# Altium footprint library Protel 99SE BANKS PCB.PCBLIB: 278 footprints (part 13 of 18)
Each footprint in its own frame and in the unit in brackets; x right, y up, seen from the top. Pads: shape width x height; smd on the part's side, far side on the other; paste and mask are expansions set on the pad; w line width, h text height; cw(c..) or ccw(c..) is an arc to the next point about the centre after c.
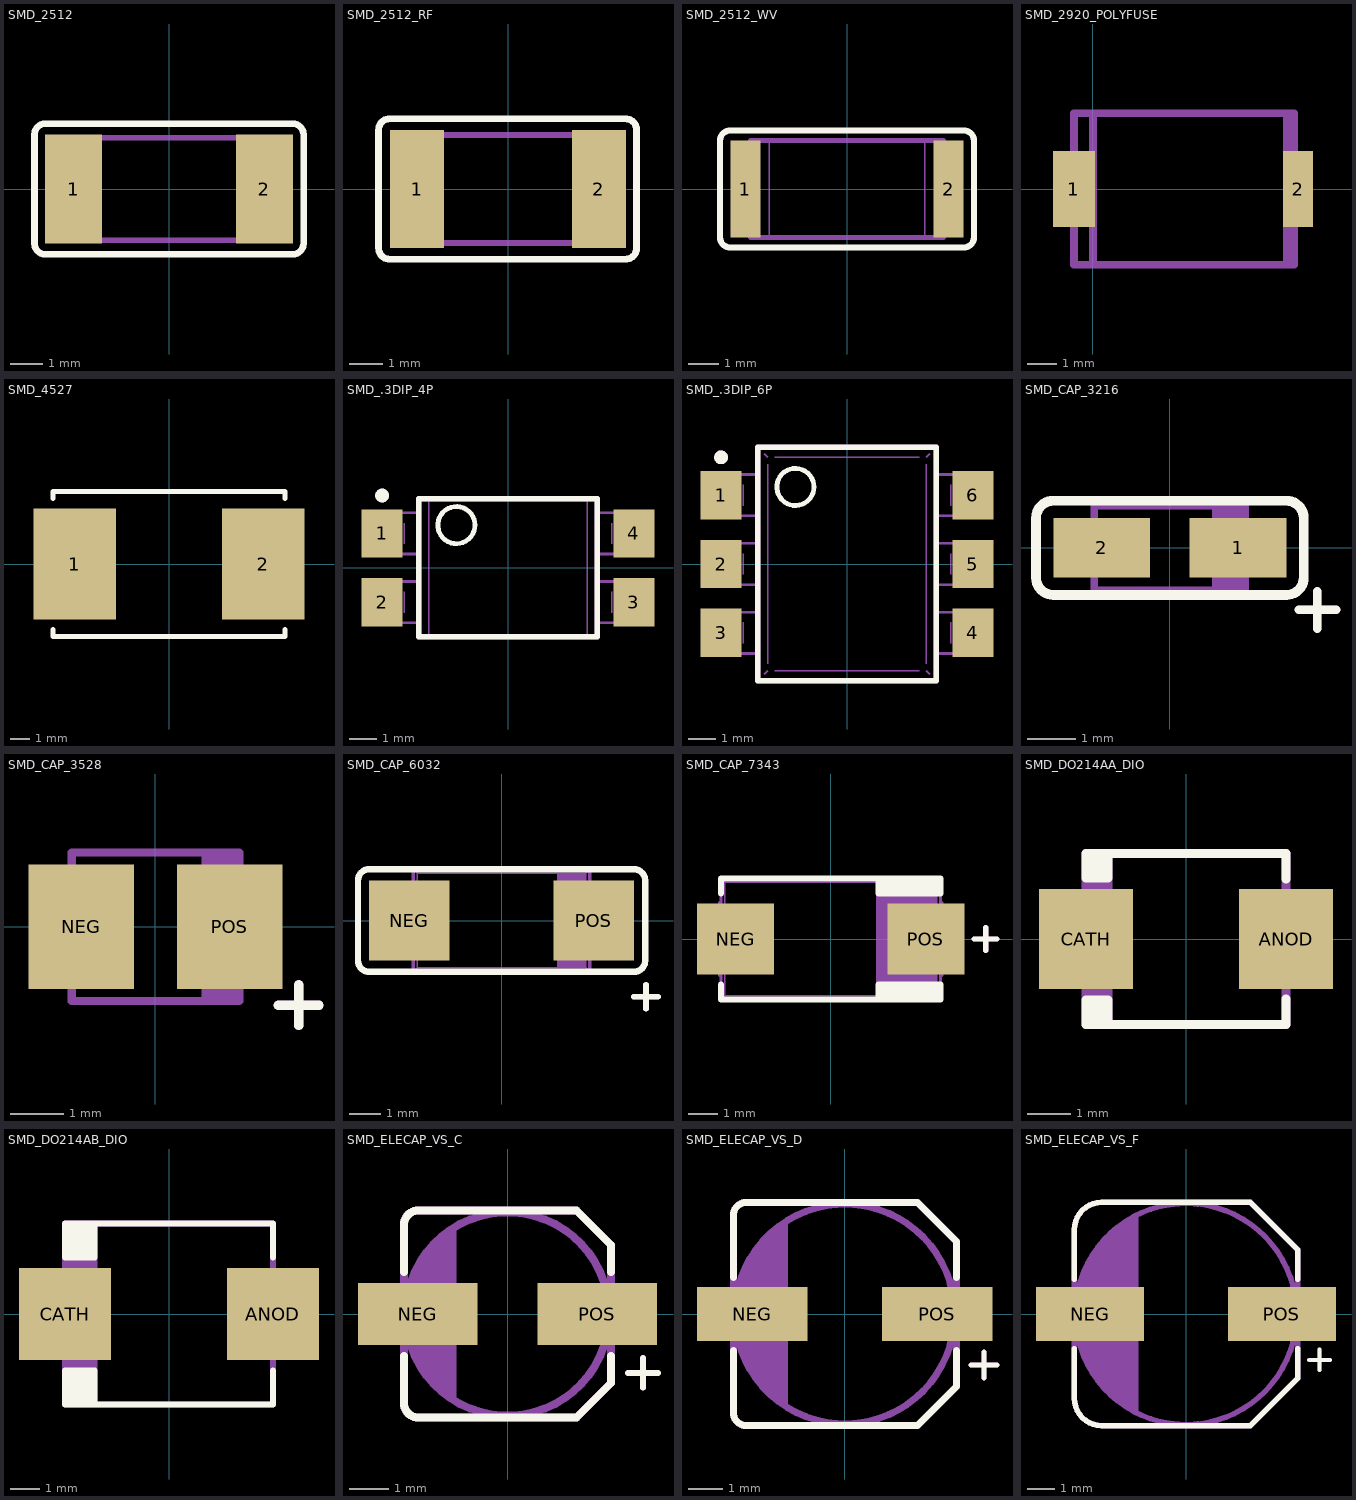
[diagram p12: the footprints below, top view; thin cyan lines are the x and y axes]

## SMD_2512 [mil]
pads (2):
  rect 70x134 smd: 1(-117,0) 2(117,0)
TopOverlay:
  lines w8: -165,-67 ccw(c-152,-67) -152,-80 152,-80 ccw(c152,-67) 165,-67 165,67 ccw(c152,67) 152,80 -152,80 ccw(c-152,67) -165,67 -165,-67
Mechanical3:
  lines w2: -101,-63 -101,63 ; 101,-63 101,63
  lines w7: -125,-63 125,-63 125,63 -125,63 -125,-63

## SMD_2512_RF [mil]
pads (2):
  rect 63x138 smd: 1(-106,0) 2(106,0)
TopOverlay:
  lines w8: -151,-69 ccw(c-138,-69) -138,-82 137,-82 ccw(c137,-69) 150,-69 150,69 ccw(c137,69) 137,82 -138,82 ccw(c-138,69) -151,69 -151,-69
Mechanical3:
  lines w2: -101,-63 -101,63 ; 101,-63 101,63
  lines w7: -125,-63 125,-63 125,63 -125,63 -125,-63

## SMD_2512_WV [mil]
pads (2):
  rect 39x126 smd: 1(-132,0) 2(132,0)
TopOverlay:
  lines w8: -165,-63 ccw(c-152,-63) -152,-76 152,-76 ccw(c152,-63) 165,-63 165,63 ccw(c152,63) 152,76 -152,76 ccw(c-152,63) -165,63 -165,-63
Mechanical3:
  lines w2: -101,-63 -101,63 ; 101,-63 101,63
  lines w7: -125,-63 -125,63 125,63 125,-63 -125,-63

## SMD_2920_POLYFUSE [mil]
pads (2):
  rect 55x100 smd: 1(-25,0)
  rect 40x100 smd: 2(270,0)
Mechanical3:
  lines w10: 0,-100 255,-100 ; 0,-100 -25,-100 -25,100 0,100 ; 0,-100 0,0 0,100 ; 0,100 255,100 ; 255,-100 265,-100 265,100 255,100 ; 255,-100 255,0 255,100

## SMD_4527 [mil]
pads (2):
  rect 170x230 smd: 1(-195,0) 2(195,0)
TopOverlay:
  lines w10: -240,-135 -240,-150 240,-150 240,-135 ; -240,135 -240,150 240,150 240,135

## SMD_.3DIP_4P [mil]
pads (4):
  rect 60x70 smd: 1(-183,50) 2(-183,-50) 3(183,-50) 4(183,50)
TopOverlay:
  circle w7: c-75,62 r27
  circle w8: c-183,105 r6
  lines w8: -187,105 -179,105 ; -183,101 -183,109 ; -130,-100 -130,100 130,100 130,-100 -130,-100
Mechanical3:
  circle w4: c-75,62 r27
  circle w8: c-183,105 r6
  lines w2: -165,-55 -165,-45 ; -165,45 -165,55 ; -151,-65 -151,-35 ; -151,35 -151,65 ; -115,-100 -115,100 ; 115,-100 115,100 ; 151,-65 151,-35 ; 151,35 151,65 ; 165,-55 165,-45 ; 165,45 165,55
  lines w4: -130,-80 -158,-80 -171,-60 -195,-60 -195,-40 -171,-40 -159,-20 -130,-20 ; -130,20 -158,20 -171,40 -195,40 -195,60 -171,60 -159,80 -130,80 ; 130,-80 158,-80 171,-60 195,-60 195,-40 171,-40 159,-20 130,-20 ; 130,20 158,20 171,40 195,40 195,60 171,60 159,80 130,80
  lines w8: -187,105 -179,105 ; -183,101 -183,109 ; -130,-100 130,-100 130,100 -130,100 -130,-100

## SMD_.3DIP_6P [mil]
pads (6):
  rect 60x70 smd: 1(-183,100) 2(-183,0) 3(-183,-100) 4(183,-100) 5(183,0) 6(183,100)
TopOverlay:
  circle w8: c-183,155 r6
  circle w7: c-75,112 r27
  lines w8: -187,155 -179,155 ; -183,151 -183,159 ; -130,-170 130,-170 130,170 -130,170 -130,-170
Mechanical3:
  circle w8: c-183,155 r6
  circle w4: c-75,112 r27
  lines w2: -165,-105 -165,-95 ; -165,-5 -165,5 ; -165,95 -165,105 ; -151,-115 -151,-85 ; -151,-15 -151,15 ; -151,85 -151,115 ; -120,-160 -115,-155 ; -120,160 -115,155 ; -115,-145 -115,145 ; -105,-155 105,-155 ; -105,155 105,155 ; 115,-155 120,-160 ; 115,-145 115,145 ; 115,155 120,160 ; 151,-115 151,-85 ; 151,-15 151,15 ; 151,85 151,115 ; 165,-105 165,-95 ; 165,-5 165,5 ; 165,95 165,105
  lines w4: -130,-130 -158,-130 -171,-110 -195,-110 -195,-90 -171,-90 -159,-70 -130,-70 ; -130,-30 -158,-30 -171,-10 -195,-10 -195,10 -171,10 -159,30 -130,30 ; -130,70 -158,70 -171,90 -195,90 -195,110 -171,110 -159,130 -130,130 ; 130,-130 158,-130 171,-110 195,-110 195,-90 171,-90 159,-70 130,-70 ; 130,-30 158,-30 171,-10 195,-10 195,10 171,10 159,30 130,30 ; 130,70 158,70 171,90 195,90 195,110 171,110 159,130 130,130
  lines w8: -187,155 -179,155 ; -183,151 -183,159 ; -130,-170 -130,170 130,170 130,-170 -130,-170

## SMD_CAP_3216 [mil]
pads (2):
  rect 78x48 smd: 1(55,0) 2(-55,0)
TopOverlay:
  lines w7: 104,-50 134,-50 ; 119,-65 119,-35
  lines w8: -108,-24 ccw(c-94,-24) -94,-38 94,-38 ccw(c94,-24) 108,-24 108,24 ccw(c94,24) 94,38 -94,38 ccw(c-94,24) -108,24 -108,-24
Mechanical3:
  rectangle: 36,-34 61,34
  lines w4: -61,-21 -66,-21 -66,21 -61,21 ; 36,-34 36,34 ; 61,-21 66,-21 66,21 61,21
  lines w6: -61,-34 61,-34 61,34 -61,34 -61,-34
  lines w7: 104,-50 134,-50 ; 119,-65 119,-35

## SMD_CAP_3528 [mil]
pads (2):
  rect 78x92 smd: NEG(-55,0) POS(55,0)
TopOverlay:
  lines w7: 91,-58 121,-58 ; 106,-73 106,-43
Mechanical3:
  rectangle: 36,-55 62,55
  lines w4: -62,-43 -69,-43 -69,43 -62,43 ; 36,-55 36,55 ; 62,-43 69,-43 69,43 62,43
  lines w6: -62,-55 62,-55 62,55 -62,55 -62,-55
  lines w7: 91,-58 121,-58 ; 106,-73 106,-43

## SMD_CAP_6032 [mil]
pads (2):
  rect 100x100 smd: NEG(-115,0) POS(115,0)
TopOverlay:
  lines w7: 165,-95 195,-95 ; 180,-110 180,-80
  lines w8: -179,-50 ccw(c-165,-50) -165,-64 165,-64 ccw(c165,-50) 179,-50 179,50 ccw(c165,50) 165,64 -165,64 ccw(c-165,50) -179,50 -179,-50
Mechanical3:
  rectangle: 70,-59 105,59
  lines w2: -110,-63 -105,-59 ; -110,63 -105,59 ; 70,-59 70,59 ; 110,-63 105,-59 ; 110,63 105,59 ; -105,-59 105,-59 ; -105,-59 -105,59 ; -105,59 105,59 ; 105,-59 105,59
  lines w4: -110,-44 -114,-44 -114,44 -110,44 ; 110,-44 114,-44 114,-16 110,-16 ; 110,16 114,16 114,44 110,44 ; -110,-63 110,-63 110,63 -110,63 -110,-63
  lines w7: 165,-95 195,-95 ; 180,-110 180,-80

## SMD_CAP_7343 [mil]
pads (2):
  rect 102x94 smd: NEG(-126,0) POS(126,0)
TopOverlay:
  rectangle: 63,-80 145,-60
  rectangle: 63,60 145,80
  lines w7: 190,0 220,0 ; 205,-15 205,15
  lines w8: -145,-60 -145,-80 145,-80 145,-60 63,-60 63,-80 ; -145,60 -145,80 145,80 145,60 63,60 63,80
Mechanical3:
  rectangle: 60,-75 140,75
  lines w2: -145,-80 -140,-75 ; -145,80 -140,75 ; 145,-80 140,-75 ; 145,80 140,75 ; -140,-75 140,-75 ; -140,-75 -140,75 ; -140,75 140,75 ; 140,-75 140,75
  lines w4: -145,-48 -147,-48 -147,48 -145,48 ; 145,-48 147,-48 147,48 145,48 ; -145,-80 145,-80 145,80 -145,80 -145,-80
  lines w7: 190,0 220,0 ; 205,-15 205,15

## SMD_DO214AA_DIO [mil]
pads (2):
  rect 85x90 smd: ANOD(90,0) CATH(-90,0)
TopOverlay:
  rectangle: -90,-77 -70,-55
  rectangle: -90,55 -70,77
  lines w8: -70,-77 -70,-55 -90,-55 -90,-77 90,-77 90,-54 ; -70,77 -70,55 -90,55 -90,77 90,77 90,54
Mechanical3:
  rectangle: -90,-77 -70,77
  lines w4: -90,-42 -110,-42 -110,42 -90,42 ; 90,-42 110,-42 110,42 90,42
  lines w8: -70,-77 -70,77 ; -90,-77 90,-77 90,77 -90,77 -90,-77

## SMD_DO214AB_DIO [mil]
pads (2):
  rect 124x124 smd: ANOD(140,0) CATH(-140,0)
TopOverlay:
  rectangle: -140,76 -100,122
  rectangle: -140,-122 -100,-76
  lines w8: -100,-122 -100,-76 -140,-76 -140,-122 140,-122 140,-76 ; -100,122 -100,76 -140,76 -140,122 140,122 140,76
Mechanical3:
  rectangle: -138,-122 -100,122
  lines w4: -140,-60 -160,-60 -160,60 -140,60 ; 140,-60 160,-60 160,60 140,60
  lines w8: -100,-122 -100,122 ; -140,-122 140,-122 140,122 -140,122 -140,-122

## SMD_ELECAP_VS_C [mil]
pads (2):
  rect 120x62 smd: NEG(-90,0) POS(90,0)
TopOverlay:
  lines w6: 121,-59 151,-59 ; 136,-74 136,-44
  lines w8: -104,-42 -104,-89 ccw(c-89,-89) -89,-104 69,-104 104,-69 104,-42 ; -104,42 -104,89 cw(c-89,89) -89,104 69,104 104,69 104,42
Mechanical3:
  circle w8: c0,0 r102
  lines w4: -104,-12 -120,-12 -120,12 -104,12 ; 104,-12 120,-12 120,12 104,12
  lines w6: 121,-59 151,-59 ; 136,-74 136,-44
  lines w8: -99,-25 -99,25 ; -95,-32 -95,32 ; -91,-40 -91,40 ; -87,-48 -87,48 ; -83,-55 -83,55 ; -79,-59 -79,59 ; -75,-64 -75,65 ; -71,-69 -71,69 ; -67,-73 -67,73 ; -63,-77 -63,76 ; -59,-82 -59,82 ; -55,-85 -55,84 ; -104,-89 ccw(c-89,-89) -89,-104 69,-104 104,-69 104,69 69,104 -89,104 ccw(c-89,89) -104,89 -104,-89

## SMD_ELECAP_VS_D [mil]
pads (2):
  rect 128x62 smd: NEG(-107,0) POS(107,0)
TopOverlay:
  lines w6: 146,-59 176,-59 ; 161,-74 161,-44
  lines w8: -129,-42 -129,-114 ccw(c-114,-114) -114,-129 84,-129 129,-84 129,-42 ; -129,42 -129,114 cw(c-114,114) -114,129 84,129 129,84 129,42
Mechanical3:
  circle w8: c0,0 r127
  lines w4: -129,-13 -147,-13 -147,13 -129,13 ; 129,-13 147,-13 147,13 129,13
  lines w6: 146,-59 176,-59 ; 161,-74 161,-44
  lines w8: -122,-34 -122,34 ; -118,-41 -118,41 ; -114,-51 -114,51 ; -110,-60 -110,59 ; -106,-65 -106,65 ; -102,-74 -102,74 ; -98,-79 -98,79 ; -94,-83 -94,83 ; -90,-87 -90,87 ; -86,-90 -86,89 ; -82,-95 -82,95 ; -78,-98 -78,97 ; -74,-101 -74,101 ; -70,-105 -70,105 ; -129,-114 ccw(c-114,-114) -114,-129 84,-129 129,-84 129,84 84,129 -114,129 ccw(c-114,114) -129,114 -129,-114

## SMD_ELECAP_VS_F [mil]
pads (2):
  rect 158x79 smd: NEG(-140,0) POS(140,0)
TopOverlay:
  lines w6: 180,-67 210,-67 ; 195,-82 195,-52
  lines w8: -163,-51 -163,-123 ccw(c-123,-123) -123,-163 94,-163 163,-94 163,-51 ; -163,51 -163,123 cw(c-123,123) -123,163 94,163 163,94 163,51
Mechanical3:
  circle w8: c0,0 r161.5
  lines w4: -163,-16 -190,-16 -190,16 -163,16 ; 163,-16 190,-16 190,16 163,16
  lines w6: 180,-67 210,-67 ; 195,-82 195,-52
  lines w8: -158,-32 -158,0 -158,32 ; -156,-36 -156,0 -156,36 ; -152,-45 -152,0 -152,45 ; -149,-55 -149,0 -149,55 ; -145,-66 -145,0 -145,66 ; -141,-74 -141,0 -141,74 ; -137,-81 -137,0 -137,81 ; -133,-88 -133,0 -133,88 ; -129,-94 -129,0 -129,94 ; -124,-102 -124,0 -124,102 ; -120,-105 -120,0 -120,105 ; -116,-110 -116,0 -116,110 ; -112,-114 -112,0 -112,114 ; -108,-119 -108,0 -108,119 ; -104,-120 -104,0 -104,120 ; -100,-122 -100,-1 ; -100,1 -100,122 ; -97,-125 -97,0 -97,125 ; -93,-130 -93,0 -93,130 ; -89,-132 -89,0 -89,132 ; -85,-136 -85,0 -85,136 ; -81,-136 -81,0 -81,136 ; -77,-140 -77,0 -77,140 ; -73,-143 -73,0 -73,143 ; -163,-123 ccw(c-123,-123) -123,-163 94,-163 163,-94 163,94 94,163 -123,163 ccw(c-123,123) -163,123 -163,-123